# Altium schematic symbol library DigiTune.SCHLIB: 10 symbols
Pins are listed as number, name and electrical type; pins without a type are passive.

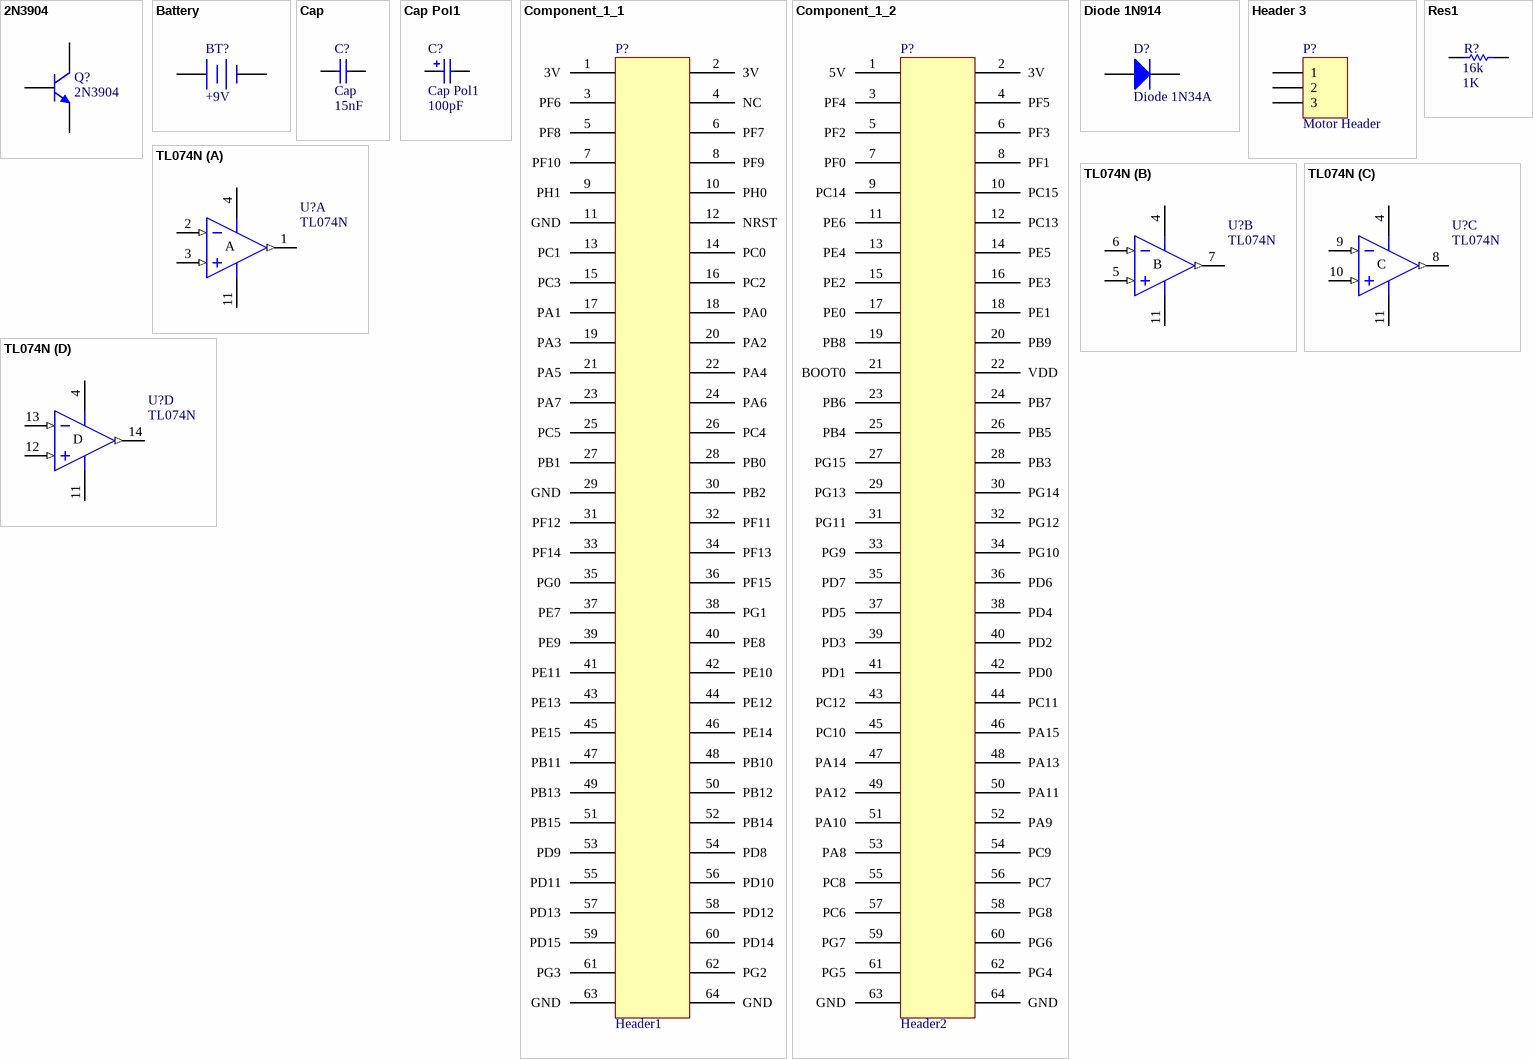
[diagram p0: symbols 2N3904 to TL074N]

## 2N3904
designator Q?
NPN General Purpose Amplifier; Published: 8-Jun-2000; LatestRevisionDate: 15-Jan-2003; LatestRevisionNote: PCB Footprint 'BCY-W3/D4.7' replaced; DatasheetVersion: 1997; PackageVersion: Sep-1998; PackageReference: TO-92A; Publisher: Altium Limited; PackageDescription: TO, Flat Index; 3 In-Line, Axial Leads; Body Dia. 4.5mm; Leads 0.51 x 0.48 mm (max); ComponentLink1Description: Manufacturer Link; ComponentLink1URL: http://www.fairchildsemi.com/; ComponentLink2Description: Datasheet; ComponentLink2URL: http://www.fairchildsemi.com/ds/2N%2F2N3904.pdf
footprint TO-92A (TO, Flat Index; 3 In-Line, Axial Leads; Body Dia. 4.5mm; Leads 0.51 x 0.48 mm (max))
simulation model 2N3904 (NPN)
signal-integrity model 2N3904
pins: 1 E, 2 B, 3 C

## Battery
designator BT?, comment +9V
Multicell Battery; Published: 24-Mar-1999; LatestRevisionDate: 17-Jul-2002; LatestRevisionNote: Re-released for DXP Platform.; PackageReference: BAT-2; Publisher: Altium Limited; PackageDescription: Battery; 2 Leads
footprint BAT-2 (Battery; 2 Leads)
pins: 1 +, 2 -

## Cap
designator C?  value 15nF
Capacitor; Published: 8-Jun-2000; LatestRevisionDate: 17-Jul-2002; LatestRevisionNote: Re-released for DXP Platform.; PackageReference: RAD-0.3; Publisher: Altium Limited; PackageDescription: Radial Cap, Thru-Hole; 2 Leads; 0.3 in Pin Spacing
footprint RAD-0.3 (Radial Cap, Thru-Hole; 2 Leads; 0.3 in Pin Spacing)
simulation model CAP (Capacitor)
signal-integrity model Cap
pins: 1, 2

## Cap Pol1
designator C?  value 100pF
Polarized Capacitor (Radial); Published: 8-Jun-2000; LatestRevisionDate: 17-Jul-2002; LatestRevisionNote: Re-released for DXP Platform.; PackageReference: RB7.6-15; Publisher: Altium Limited; PackageDescription: Polarized Capacitor (Radial); 2 Leads
footprint RB7.6-15 (Polarized Capacitor (Radial); 2 Leads)
simulation model CAP (Capacitor)
signal-integrity model Cap Pol
pins: 1, 2
1 alternate drawing of the same symbol

## Component_1_1
designator P?, comment Header1
Header for STM32F429 pinout
footprint STM32F4DiscoHeader
pins: 1 3V (power), 2 3V (power), 3 PF6, 4 NC, 5 PF8, 6 PF7, 7 PF10, 8 PF9, 9 PH1, 10 PH0, 11 GND (power), 12 NRST, 13 PC1, 14 PC0, 15 PC3, 16 PC2, 17 PA1, 18 PA0, 19 PA3, 20 PA2, 21 PA5, 22 PA4, 23 PA7, 24 PA6, 25 PC5, 26 PC4, 27 PB1, 28 PB0, 29 GND (power), 30 PB2, 31 PF12, 32 PF11, 33 PF14, 34 PF13, 35 PG0, 36 PF15, 37 PE7, 38 PG1, 39 PE9, 40 PE8, 41 PE11, 42 PE10, 43 PE13, 44 PE12, 45 PE15, 46 PE14, 47 PB11, 48 PB10, 49 PB13, 50 PB12, 51 PB15, 52 PB14, 53 PD9, 54 PD8, 55 PD11, 56 PD10, 57 PD13, 58 PD12, 59 PD15, 60 PD14, 61 PG3, 62 PG2, 63 GND (power), 64 GND (power)

## Component_1_2
designator P?, comment Header2
footprint STM32F4DiscoHeader
pins: 1 5V (power), 2 3V (power), 3 PF4, 4 PF5, 5 PF2, 6 PF3, 7 PF0, 8 PF1, 9 PC14, 10 PC15, 11 PE6, 12 PC13, 13 PE4, 14 PE5, 15 PE2, 16 PE3, 17 PE0, 18 PE1, 19 PB8, 20 PB9, 21 BOOT0, 22 VDD (power), 23 PB6, 24 PB7, 25 PB4, 26 PB5, 27 PG15, 28 PB3, 29 PG13, 30 PG14, 31 PG11, 32 PG12, 33 PG9, 34 PG10, 35 PD7, 36 PD6, 37 PD5, 38 PD4, 39 PD3, 40 PD2, 41 PD1, 42 PD0, 43 PC12, 44 PC11, 45 PC10, 46 PA15, 47 PA14, 48 PA13, 49 PA12, 50 PA11, 51 PA10, 52 PA9, 53 PA8, 54 PC9, 55 PC8, 56 PC7, 57 PC6, 58 PG8, 59 PG7, 60 PG6, 61 PG5, 62 PG4, 63 GND (power), 64 GND (power)

## Diode 1N914
designator D?, comment Diode 1N34A
High Conductance Fast Diode; Published: 8-Jun-2000; LatestRevisionDate: 17-Jul-2002; LatestRevisionNote: Re-released for DXP Platform.; DatasheetVersion: 1997; PackageReference: DO-35; Publisher: Altium Limited; PackageDescription: Diode, Axial; Body 3.8 x 1.9 mm (LxDia. max), Lead Dia. 0.53 mm (max); Code_JEDEC: DO-204-AH; ComponentLink1Description: Manufacturer Link; ComponentLink1URL: http://www.fairchildsemi.com/; ComponentLink2Description: Datasheet; ComponentLink2URL: http://www.fairchildsemi.com/ds/1N%2F1N4448.pdf
footprint DO-35 (Diode, Axial; Body 3.8 x 1.9 mm (LxDia. max), Lead Dia. 0.53 mm (max))
simulation model 1N914 (DIODE)
signal-integrity model 1N914
pins: 1 A, 2 K

## Header 3
designator P?, comment Motor Header
Header, 3-Pin; LatestRevisionDate: 17-Jul-2002; LatestRevisionNote: Re-released for DXP Platform.; Publisher: Altium Limited
footprint HDR1X3 (Connector; Header; 3 Position)
signal-integrity model Connector
pins: 1, 2, 3

## Res1
designator R?, comment 16k  value 1K
Resistor; Published: 8-Jun-2000; LatestRevisionDate: 17-Jul-2002; LatestRevisionNote: Re-released for DXP Platform.; PackageReference: AXIAL-0.3; Publisher: Altium Limited; PackageDescription: Axial Device, Thru-Hole; 2 Leads; 0.3 in Pin Spacing
footprint AXIAL-0.3 (Axial Device, Thru-Hole; 2 Leads; 0.3 in Pin Spacing)
simulation model RESISTOR (Resistor)
signal-integrity model Res
pins: 1, 2

## TL074N
designator U?
Low-Noise JFET-Input Operational Amplifier; Published: 16-Jan-2001; LatestRevisionDate: 04-Mar-2005; LatestRevisionNote: Stylized 3D Model Added.; DatasheetVersion: Aug-1996; PackageVersion: Oct-1995; PackageReference: N014; Publisher: Altium Limited; PackageDescription: DIP; 14 Leads; Row Spacing 7.62 mm; Pitch 2.54 mm; ComponentLink1Description: Manufacturer Link; ComponentLink1URL: http://www.ti.com/; ComponentLink2Description: Datasheet; ComponentLink2URL: http://www-s.ti.com/sc/ds/tl074.pdf
footprint N014 (DIP; 14 Leads; Row Spacing 7.62 mm; Pitch 2.54 mm)
3D model N014 (DIP; 14 Leads; Row Spacing 7.62 mm; Pitch 2.54 mm)
simulation model TL074 (SUBCKT)
pins on every part: 4 V+ (power), 11 V- (power)
part A pins: 1 OUT (out), 2 IN- (in), 3 IN+ (in)
part B pins: 5 IN+ (in), 6 IN- (in), 7 OUT (out)
part C pins: 8 OUT (out), 9 IN- (in), 10 IN+ (in)
part D pins: 12 IN+ (in), 13 IN- (in), 14 OUT (out)
part A text: A
part B text: B
part C text: C
part D text: D